# EAGLE library part SD (library connector)
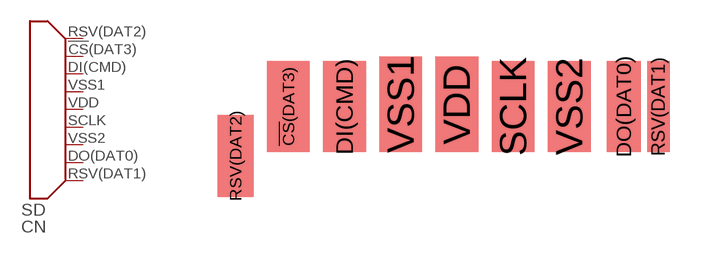
[diagram p3: symbol with the pads of SD_V3; footprint SD_V3]

Designator prefix CN

## SD  [SD_V3]
!CS!(DAT3)  P$2  pas
DI(CMD)  P$3  pas
DO(DAT0)  P$8  pas
RSV(DAT1)  P$9  pas
RSV(DAT2)  P$1  pas
SCLK  P$6  pas
VDD  P$5  pas
VSS1  P$4  pas
VSS2  P$7  pas

## Footprint SD_V3 (pad centres in mm)
smd 1.9 x 4.05: !CS!(DAT3) 2.5,2.2; DI(CMD) 5,2.2; SCLK 12.5,2.2; VSS2 15,2.2
smd 1.5 x 4.05: DO(DAT0) 17.42,2.2
smd 1 x 4.05: RSV(DAT1) 18.97,2.2
smd 1.6 x 3.65: RSV(DAT2) 0.15,0
smd 1.9 x 4.25: VDD 10,2.3; VSS1 7.5,2.3